# Altium footprint library AMT.PcbLib: 2 footprints
Each footprint in its own frame and in the unit in brackets; x right, y up, seen from the top. Pads: shape width x height; smd on the part's side, far side on the other; paste and mask are expansions set on the pad; w line width, h text height; cw(c..) or ccw(c..) is an arc to the next point about the centre after c.
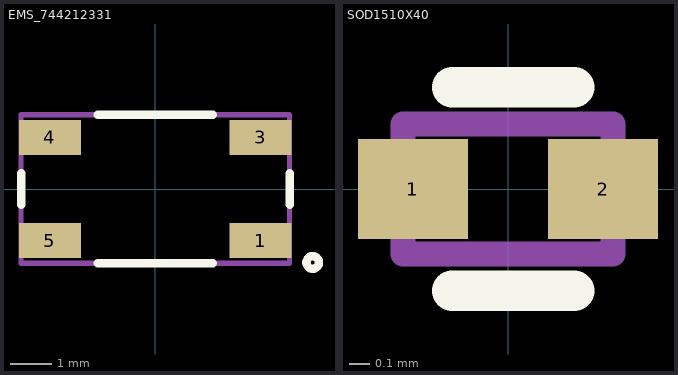
[diagram p0: the footprints below, top view; thin cyan lines are the x and y axes]

## EMS_744212331 [mm]
height 1.8
pads (4):
  rect 1.5x0.85 smd mask+0.102: 1(2.55,-1.25) 3(2.55,1.25) 4(-2.55,1.25) 5(-2.55,-1.25)
Top Overlay:
  circle w0.203: c3.81,-1.778 r0.152
  lines w0.203: -3.25,-0.381 -3.25,0.381 ; -1.397,-1.8 1.397,-1.8 ; -1.397,1.8 1.397,1.8 ; 3.25,-0.381 3.25,0.381
Mechanical 1:
  text "'.Designator'" at 0,0 h1.52
Mechanical 15:
  circle w0.127: c2.54,-1.27 r0.152
  lines w0.127: -3.25,-1.8 -3.25,1.8 3.25,1.8 3.25,-1.8 -3.25,-1.8
3D body "744212100_Download_STP_WE-SL1_rev1 (1).stp": height 1.7, standoff 0.04, extent -2.6,-1.8 2.6,1.8

## SOD1510X40 [mm]
height 0.4
pads (2):
  rect 0.55x0.5 smd mask+0.076: 1(-0.475,0) 2(0.475,0)
Top Overlay:
  lines w0.203: -0.279,-0.508 0.33,-0.508 ; -0.279,0.508 0.33,0.508
Mechanical 1:
  text "'.Designator'" at 0,0 h1.52
Mechanical 15:
  lines w0.127: -0.525,-0.325 0.525,-0.325 0.525,0.325 -0.525,0.325 -0.525,-0.325
3D body: height 0.4, standoff 0, extent -0.525,-0.325 0.525,0.325